# Altium footprint library Toroidal 9 output.PcbLib: 1 footprints
Each footprint in its own frame and in the unit in brackets; x right, y up, seen from the top. Pads: shape width x height; smd on the part's side, far side on the other; paste and mask are expansions set on the pad; w line width, h text height; cw(c..) or ccw(c..) is an arc to the next point about the centre after c.
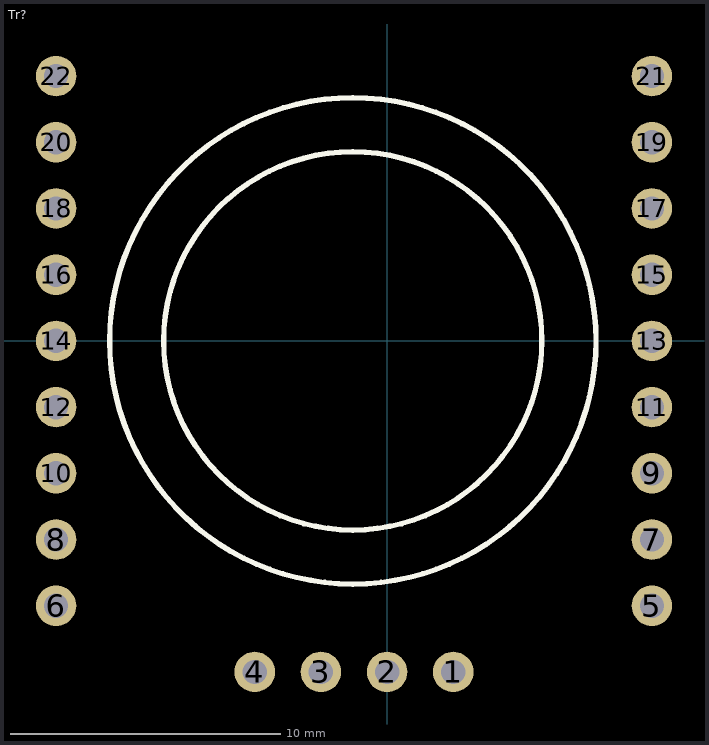
[diagram p0: the footprint, top view; thin cyan lines are the x and y axes]

## Tr? [mm] "Toroidal transformer"
pads (22):
  round 1.5 hole 0.9: 1(2.45,-12.25) 2(0,-12.25) 3(-2.45,-12.25) 4(-4.9,-12.25) 5(9.8,-9.8) 6(-12.25,-9.8) 7(9.8,-7.35) 8(-12.25,-7.35) 9(9.8,-4.9) 10(-12.25,-4.9) 11(9.8,-2.45) 12(-12.25,-2.45) 13(9.8,0) 14(-12.25,0) 15(9.8,2.45) 16(-12.25,2.45) 17(9.8,4.9) 18(-12.25,4.9) 19(9.8,7.35) 20(-12.25,7.35) 21(9.8,9.8) 22(-12.25,9.8)
Top Overlay:
  circle w0.2: c-1.27,0 r7
  circle w0.2: c-1.27,0 r9
3D body: height 8, standoff 0, extent -9.27,-8 6.73,8